# Altium footprint library PcbLib1.PcbLib: 1 footprints
Each footprint in its own frame and in the unit in brackets; x right, y up, seen from the top. Pads: shape width x height; smd on the part's side, far side on the other; paste and mask are expansions set on the pad; w line width, h text height; cw(c..) or ccw(c..) is an arc to the next point about the centre after c.
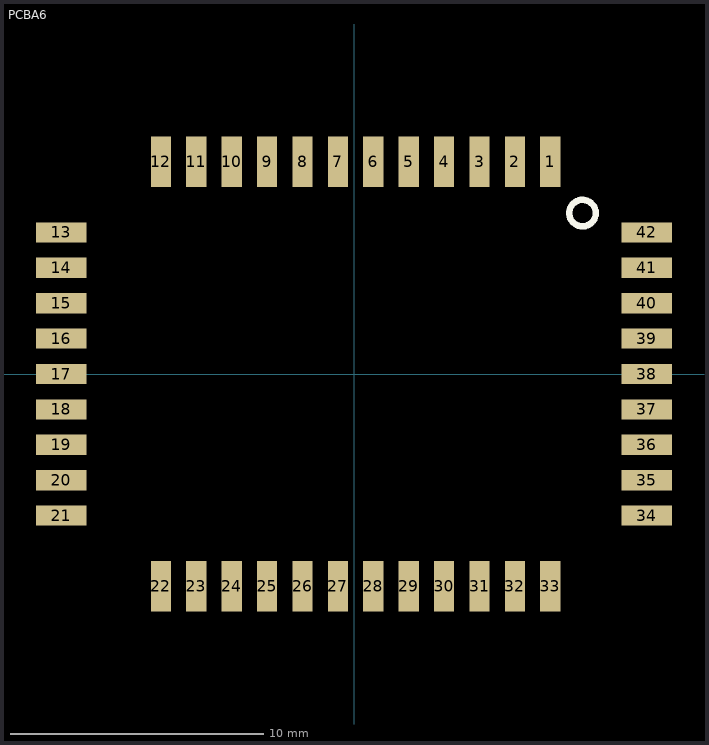
[diagram p0: the footprint, top view; thin cyan lines are the x and y axes]

## PCBA6 [mm]
pads (42):
  rect 0.8x2 smd: 1(7.747,8.382) 2(6.35,8.382) 3(4.953,8.382) 4(3.556,8.382) 5(2.159,8.382) 6(0.762,8.382) 7(-0.635,8.382) 8(-2.032,8.382) 9(-3.429,8.382) 10(-4.826,8.382) 11(-6.223,8.382) 12(-7.62,8.382) 22(-7.62,-8.382) 23(-6.223,-8.382) 24(-4.826,-8.382) 25(-3.429,-8.382) 26(-2.032,-8.382) 27(-0.635,-8.382) 28(0.762,-8.382) 29(2.159,-8.382) 30(3.556,-8.382) 31(4.953,-8.382) 32(6.35,-8.382) 33(7.747,-8.382)
  rect 2x0.8 smd: 13(-11.557,5.588) 14(-11.557,4.191) 15(-11.557,2.794) 16(-11.557,1.397) 17(-11.557,0) 18(-11.557,-1.397) 19(-11.557,-2.794) 20(-11.557,-4.191) 21(-11.557,-5.588) 34(11.557,-5.588) 35(11.557,-4.191) 36(11.557,-2.794) 37(11.557,-1.397) 38(11.557,0) 39(11.557,1.397) 40(11.557,2.794) 41(11.557,4.191) 42(11.557,5.588)
Top Overlay:
  circle w0.254: c9.017,6.35 r0.524